# Altium schematic symbol library my_lib.SchLib: 341 symbols (part 2 of 2)
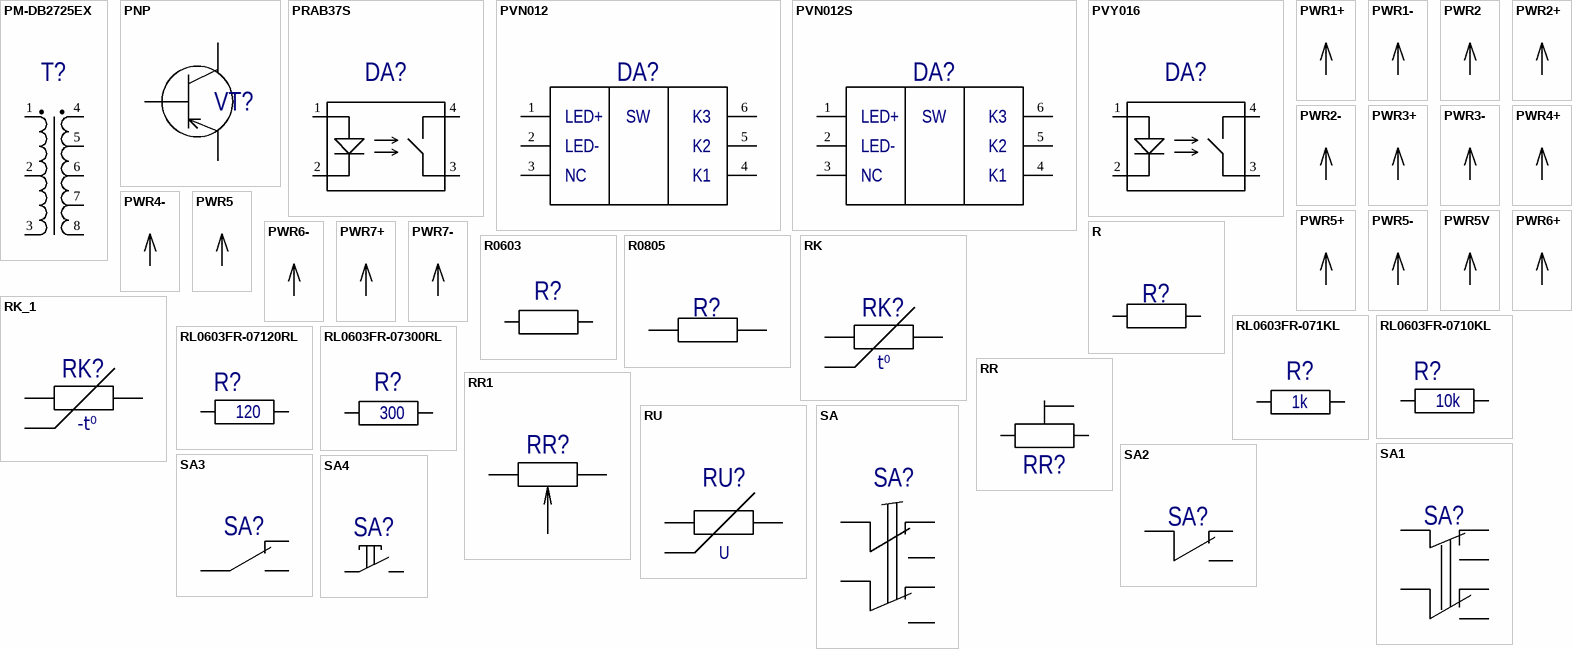
[diagram p26: symbols PM-DB2725EX to SA4]

## PWR6+
designator PWR?  (value not drawn)
Group: Group; Type: Type; TU: TU
pins: 0 PWR6+ (power)

## PWR6-
designator PWR?  (value not drawn)
Group: Group; Type: Type; TU: TU
pins: 0 PWR6- (power)

## PWR7+
designator PWR?  (value not drawn)
Group: Group; Type: Type; TU: TU
pins: 0 PWR7+ (power)

## PWR7-
designator PWR?  (value not drawn)
Group: Group; Type: Type; TU: TU
pins: 0 PWR7- (power)

## R
designator R?  (value not drawn)
Group: Резисторы; Type: Type; TU: TU; Power: Power; Precision: Precision; Value: Value
pins: 1, 2

## R0603
designator R?
Резистор 0603; Part Number: R0603; Group: Резисторы; Type: Type; TU: TU
pins: 1, 2

## R0805
designator R?  (value not drawn)
Group: Резисторы; Type: Type; TU: TU; Power: Power; Precision: Precision; Value: *
footprint 0805
pins: 1, 2

## RK
designator RK?  (value not drawn)
Терморезистор с положительным ТКЕ; Group: Терморезисторы; Type: Type; TU: TU; Price: Price; Value: Value
pins: 1, 2
text: t⁰

## RK_1
designator RK?
Терморезистор с отрицательным ТКЕ; Group: Терморезисторы; Type: Type; TU: TU; Price: Price; Value: Value
pins: 1, 2
text: -t⁰

## RL0603FR-071KL
designator R?  value 1k
Резистор Yageo 0603 1% 1к; Part Number: RL0603FR-071KL; Group: Резисторы; Power: 0,1; Type: Type; TU: TU; Precision: ±1%
pins: 1, 2

## RL0603FR-0710KL
designator R?  value 10k
Резистор Yageo 0603 1% 10к; Part Number: RL0603FR-0710KL; Group: Резисторы; Power: 0,1; Type: Type; TU: TU; Precision: ±1%
pins: 1, 2

## RL0603FR-07120RL
designator R?  value 120
Резистор Yageo 0603 1% 120; Part Number: RL0603FR-07120RL; Group: Резисторы; Power: 0,1; Type: Type; TU: TU; Precision: ±1%
pins: 1, 2

## RL0603FR-07300RL
designator R?  value 300
Резистор Yageo 0603 1% 300; Part Number: RL0603FR-07300RL; Group: Резисторы; Power: 0,1; Type: Type; TU: TU; Precision: ±1%
pins: 1, 2

## RR
designator RR?  (value not drawn)
Group: Резисторы переменные; Precision: Precicion; Type: Type; TU: TU; Power: Power; Value: Value
pins: 0, 1, 2

## RR1
designator RR?  (value not drawn)
Group: Резисторы переменные; Precision: Precicion; Type: Type; TU: TU; Power: Power; Value: Value
pins: 1, 2, 3

## RU
designator RU?  (value not drawn)
Group: Group; Type: Type; TU: TU
pins: 1, 2
text: U

## SA
designator SA?  (value not drawn)
tu_com: ОЮ0.360.028 ТУ; Group: Group; Type: Type; TU: TU
pins: 1, 2, 3, 4, 5, 6

## SA1
designator SA?  (value not drawn)
Group: Group; Type: Type; TU: TU
pins: 1, 2, 3, 4, 5, 6

## SA2
designator SA?  (value not drawn)
Group: Group; Type: Type; TU: TU
pins: 0, 1, 2

## SA3
designator SA?  (value not drawn)
Group: Group; Type: Type; TU: TU
pins: 0, 1, 2

## SA4
designator SA?, comment Кнопка  (value not drawn)
Group: Кнопки; Type: Type; TU: TU
pins: 0, 2

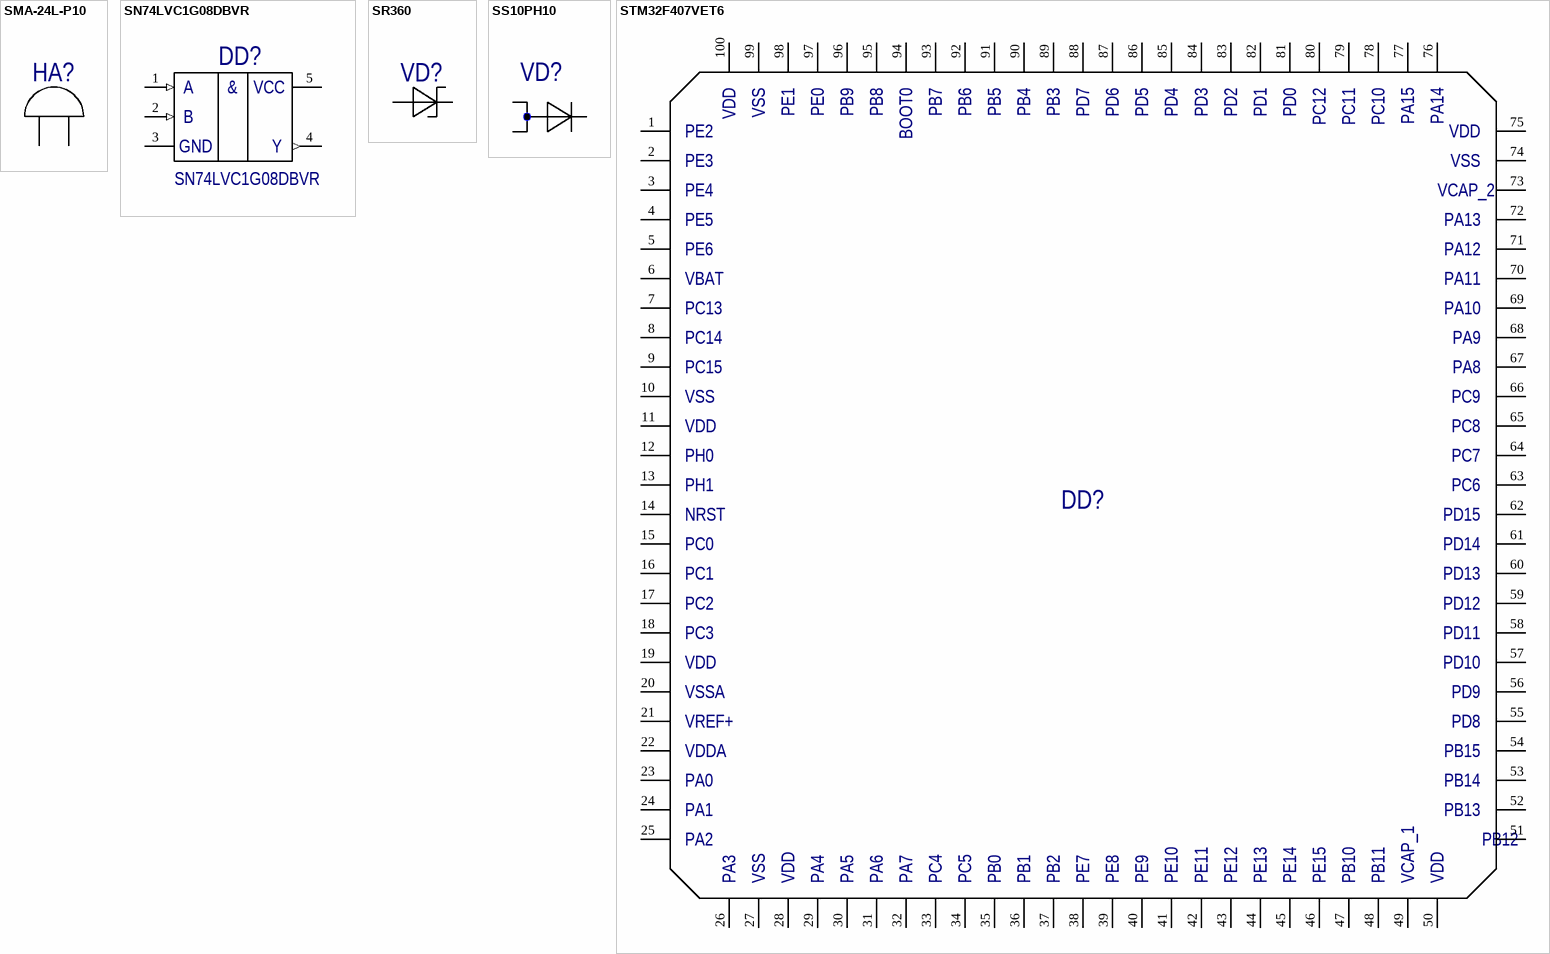
[diagram p21: symbols SMA-24L-P10 to STM32F407VET6]

## SMA-24L-P10
designator HA?  (value not drawn)
Group: Group; Type: Type; TU: TU
footprint SMA24-10
pins: 1, 2

## SN74LVC1G08DBVR
designator DD?  Part Number: SN74LVC1G08DBVR
Единичный элемент И, SOT23; Manufacturer: TI; Group: Микросхемы; Type: Type; TU: TU
pins: 1 IN1 (in), 2 IN2 (in), 3 IN1 (power), 4 OUT (out), 5 IN2 (power), 7 GND (power) hidden, 14 VCC (power) hidden
text: A; &; B; Y

## SR360
designator VD?  (value not drawn)
Group: Диоды; Type: Type; TU: TU
footprint SR360
pins: 1 0, 2 1

## SS10PH10
designator VD?  (value not drawn)
High Current Density Surface-Mount / High Voltage Schottky Rectifiers; Group: Диоды; Type: Type; TU: TU; Part Number: SS10PH10
footprint TO-277A
pins: 1 A1, 2 A2, 3 C

## STM32F407VET6
designator DD?  (value not drawn)
LQFP-100; Manufacturer: STM; Group: Микросхемы; Type: Type; TU: TU; FullName: STM32F407VET6; Part Number: STM32F407VET6
pins: 1, 2, 3, 4, 5, 6, 7, 8, 9, 10, 11, 12, 13, 14, 15, 16, 17, 18, 19, 20, 21, 22, 23, 24, 25, 26, 27, 28, 29, 30, 31, 32, 33, 34, 35, 36, 37, 38, 39, 40, 41, 42, 43, 44, 45, 46, 47, 48, 49, 50, 51, 52, 53, 54, 55, 56, 57, 58, 59, 60, 61, 62, 63, 64, 65, 66, 67, 68, 69, 70, 71, 72, 73, 74, 75, 76, 77, 78, 79, 80, 81, 82, 83, 84, 85, 86, 87, 88, 89, 90, 91, 92, 93, 94, 95, 96, 97, 98, 99, 100
text: VDD; VSS; PE1; PE0; PB9; PB8; BOOT0; PB7; PB6; PB5; PB4; PB3; PD7; PD6; PD5; PD4; PD3; PD2; PD1; PD0; PC12; PC11; PC10; PA15; PA14; PE2; PE3; PE4; VCAP_2; PE5; PA13; PE6; PA12; VBAT; PA11; PC13; PA10; PC14; PA9; PC15; PA8; PC9; PC8; PH0; PC7; PH1; PC6; NRST; PD15; PC0; PD14; PC1; PD13; PC2; PD12; PC3; PD11; PD10; VSSA; PD9; VREF+; PD8; VDDA; PB15; PA0; PB14; PA1; PB13; PA2; PB12; PA3; PA4; PA5; PA6; PA7; PC4; PC5; PB0; PB1; PB2; PE7; PE8; PE9; PE10; PE11; PE12; PE13; PE14; PE15; PB10; PB11; VCAP_1

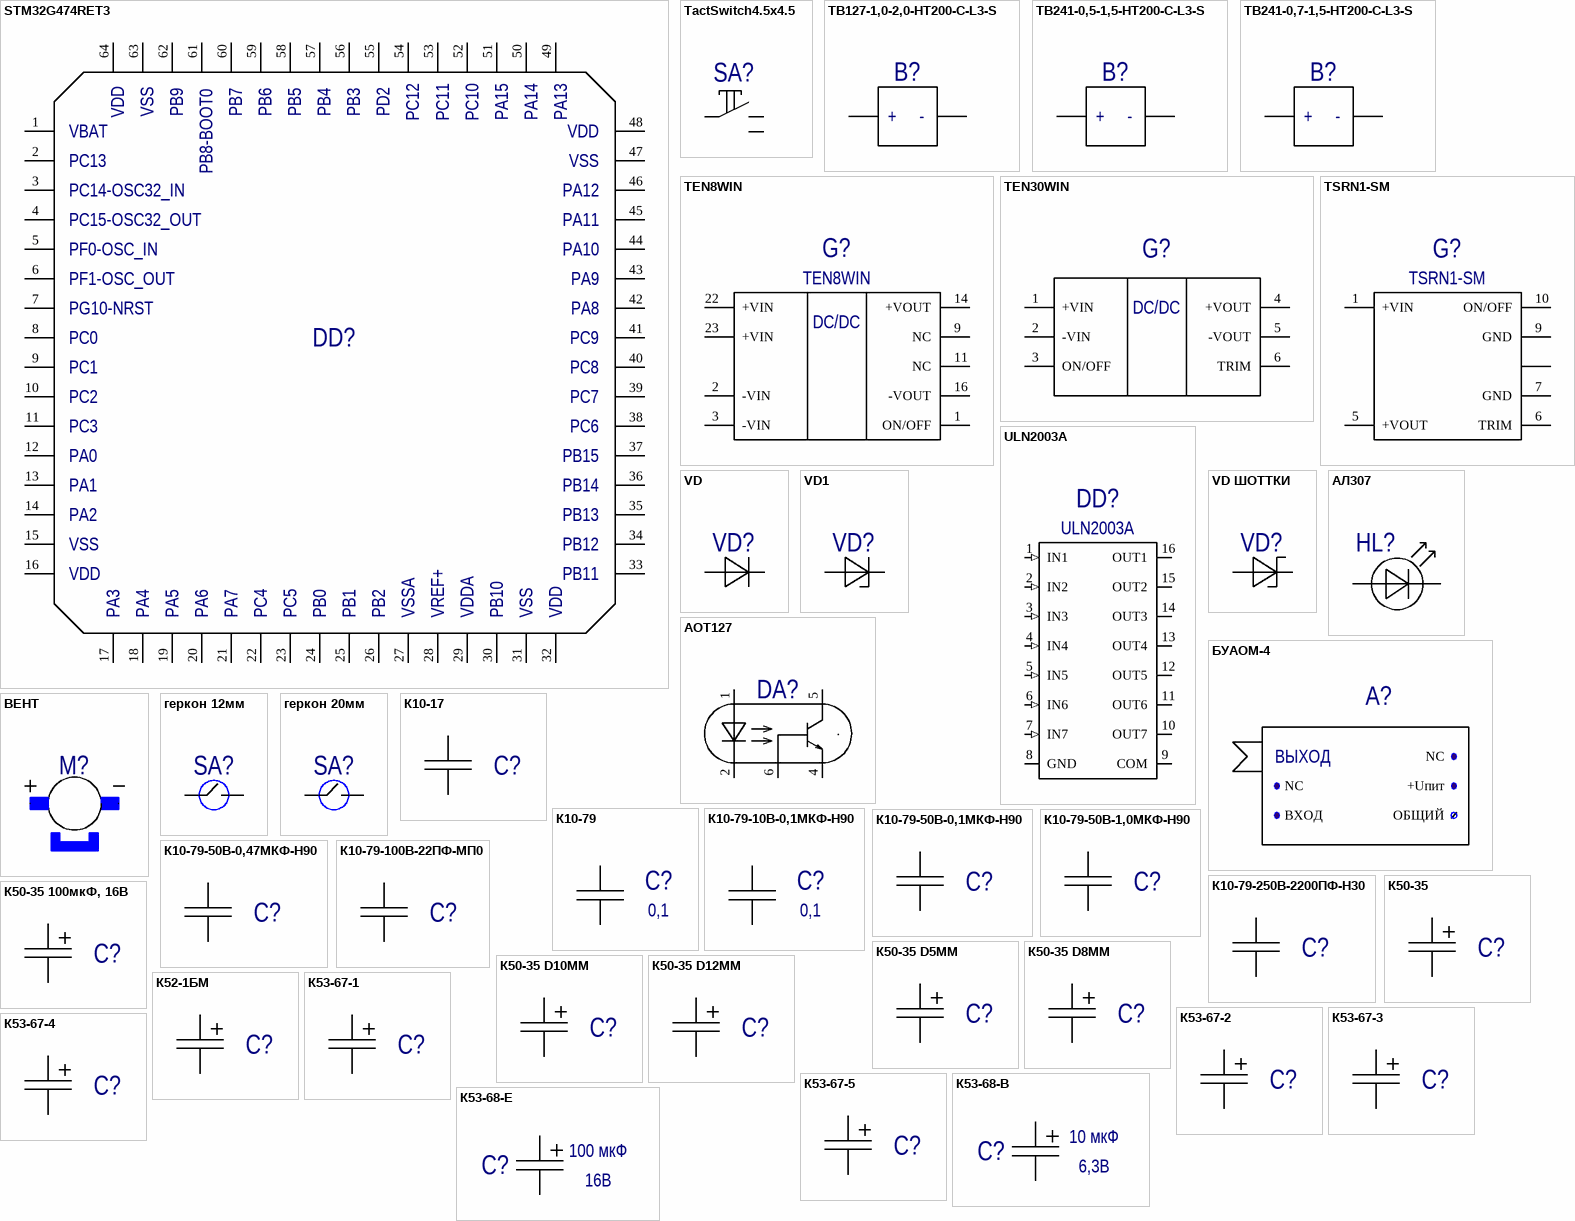
[diagram p22: symbols STM32G474RET3 to К53-68-E]

## STM32G474RET3
designator DD?  (value not drawn)
LQFP64; Manufacturer: STM; Group: Микросхемы; Type: Type; TU: TU; FullName: STM32G474RET3; Part Number: STM32G474RET3
footprint 4229.132-3
pins: 1, 2, 3, 4, 5, 6, 7, 8, 9, 10, 11, 12, 13, 14, 15, 16, 17, 18, 19, 20, 21, 22, 23, 24, 25, 26, 27, 28, 29, 30, 31, 32, 33, 34, 35, 36, 37, 38, 39, 40, 41, 42, 43, 44, 45, 46, 47, 48, 49, 50, 51, 52, 53, 54, 55, 56, 57, 58, 59, 60, 61, 62, 63, 64
text: VDD; VSS; PB9; PB7; PB6; PB5; PB4; PB3; PD2; PC12; PC11; PC10; PA15; PA14; PA13; VBAT; PB8-BOOT0; PC13; PC14-OSC32_IN; PA12; PC15-OSC32_OUT; PA11; PF0-OSC_IN; PA10; PF1-OSC_OUT; PA9; PG10-NRST; PA8; PC0; PC9; PC1; PC8; PC2; PC7; PC3; PC6; PA0; PB15; PA1; PB14; PA2; PB13; PB12; PB11; PA3; PA4; PA5; PA6; PA7; PC4; PC5; PB0; PB1; PB2; VSSA; VREF+; VDDA; PB10

## TactSwitch4.5x4.5
designator SA?, comment Кнопка  (value not drawn)
Кнопка трехконтактная 4,5х4,5 боковая; Part Number: tact switch 4.5x4.5mm; Group: Кнопки; Type: Type; TU: TU
footprint Кнопка 4,3х4,3 боковая
pins: 1, 2, 3

## TB127-1,0-2,0-HT200-C-L3-S
designator B?  (value not drawn)
Термоэлектрический модуль; Part Number: TB127-1,0-2,0-HT200-C-L3-S ТУ6349-001-79789858-2007; TypeComp: Модули термоэлектрические; NameComp: TB127-1,0-2,0-HT200-C-L3-S
pins: 1, 1
text: +; -

## TB241-0,5-1,5-HT200-C-L3-S
designator B?  (value not drawn)
Термоэлектрический модуль; Part Number: TB241-0,5-1,5-HT200-C-L3-S ТУ6349-001-79789858-2007; TypeComp: Модули термоэлектрические; NameComp: TB241-0,5-1,5-HT200-C-L3-S
pins: 1, 1
text: +; -

## TB241-0,7-1,5-HT200-C-L3-S
designator B?  (value not drawn)
Термоэлектрический модуль; Part Number: TB241-0,7-1,5-HT200-C-L3-S ТУ6349-001-79789858-2007; TypeComp: Модули термоэлектрические; NameComp: TB241-0,7-1,5-HT200-C-L3-S
pins: 1, 1
text: +; -

## TEN8WIN
designator G?, comment Type: TEN8WIN  (hidden comment: DC/DC преобразователь)
Manufacturer: Traco Power; Group: Модули питания; Price: 2000; FullName: TEN8WIN
pins: 1 ON/OFF, 2 -VIN, 3 -VIN, 9 NC, 11 NC, 14 +VOUT, 16 -VOUT, 22 +VIN, 23 +VIN
text: DC/DC

## TEN30WIN
designator G?, comment DC/DC преобразователь  (value not drawn)
Manufacturer: Traco Power; Group: Модули питания; Price: 2000; Type: TEN30WIN
pins: 1 +VIN, 2 -VIN, 3 ON/OFF, 4 +VOUT, 5 -VOUT, 6 TRIM
text: DC/DC

## TSRN1-SM
designator G?
Manufacturer: Traco Power; Group: Источники питания; TU: TU; FullName: TSRN1-SM; Type: TSRN1-SM
pins: 1 +VIN, 5 +VOUT, 6 TRIM, 7 GND, 8, 9 GND, 10 ON/OFF

## ULN2003A
designator DD?
Group: Микросхемы; FullName: ULN2003A; Part Number: ULN2003A; Type: ULN2003A
footprint SOIC-RW16
pins: 1 IN1 (in), 2 IN2 (in), 3 IN3 (in), 4 IN4 (in), 5 IN5 (in), 6 IN6 (in), 7 IN7 (in), 8 GND, 9 COM, 10 OUT7 (oc), 11 OUT6 (oc), 12 OUT5 (oc), 13 OUT4 (oc), 14 OUT3 (oc), 15 OUT2 (oc), 16 OUT1 (oc)

## VD
designator VD?  (value not drawn)
Group: Диоды; Type: Type; TU: TU
pins: 1 0, 2 1

## VD1
designator VD?  (value not drawn)
Group: Диоды; Type: Type; TU: TU
pins: 1 0, 2 1

## VD ШОТТКИ
designator VD?  (value not drawn)
Group: Диоды; Type: Type; TU: TU
pins: 1 0, 2 1

## АЛ307
designator HL?  (value not drawn)
Group: Индикаторы единичные; Type: Type; TU: TU
footprint АЛ307
pins: 1, 2

## АОТ127
designator DA?  (value not drawn)
Group: Микросхемы; Type: Type; TU: TU
footprint 2101.6-1
pins: 1 A, 2 K, 3, 4 E, 5 C, 6 B

## БУАОМ-4
designator A?  (value not drawn)
TU: ЯНТИ.431167.004 ТУ; Group: Group; Type: БУАОМ-4
pins: ?1 NC, ?2 ВХОД, ?3 ОБЩИЙ, ?4 +Uпит, ?5 NC
text: ВЫХОД

## ВЕНТ
designator M?  (value not drawn)
Group: Group; Type: Type; TU: TU
pins: 0, 1

## геркон 12мм
designator SA?  (value not drawn)
Геркон пластик Китай 12мм; Group: Изделия коммутационные; Type: Type; TU: TU; Part Number: Геркон 12 мм
footprint Геркон 12 мм
pins: 1, 2

## геркон 20мм
designator SA?  (value not drawn)
Геркон стеклянный 20мм; Group: Изделия коммутационные; Type: Type; TU: TU; Part Number: Геркон 20 мм
footprint Геркон 20 мм
pins: 1, 2

## К10-17
designator C?  (value not drawn)
Group: Конденсаторы; Type: Type; TU: TU; Value: Value; Volt: Volt; TKE: TKE; Precision: Precision
footprint К10-17
pins: 1, 2

## К10-79
designator C?  value 0,1  (hidden comment: К10-79)
Group: Конденсаторы; TU: АЖЯР.673511.004ТУ; Volt: 10В; TKE: -Н90; FullName: К10-79-10В-0,1-Н90 АЖЯР.673511.004ТУ; Type: К10-79; Precision: Precision; Price: 1
pins: 1, 2

## К10-79-10В-0,1МКФ-Н90
designator C?  value 0,1  (hidden comment: К10-79-10В-0,1МКФ-Н90)
Group: Конденсаторы; Type: К10-79; TU: АЖЯР.673511.004ТУ; Volt: 10В; TKE: -Н90; Precision: Precision; Price: 1
footprint К10-79-1,6х0,8 (Chip Capacitor, 2-Leads, Body 1,60x0,80mm, IPC Low Density)
pins: 1, 2

## К10-79-50В-0,1МКФ-Н90
designator C?  (value not drawn)
Group: Конденсаторы; Type: Type; TU: TU; Value: Value; Volt: Volt; TKE: TKE; Precision: Precision
footprint К10-79-3,2Х1,6
pins: 1, 2

## К10-79-50В-0,47МКФ-Н90
designator C?  (value not drawn)
Group: Конденсаторы; Type: Type; TU: TU; Value: Value; Volt: Volt; TKE: TKE; Precision: Precision
footprint К10-79-4.5X3.2
pins: 1, 2

## К10-79-50В-1,0МКФ-Н90
designator C?  (value not drawn)
Group: Конденсаторы; Type: Type; TU: TU; Value: Value; Volt: Volt; TKE: TKE; Precision: Precision
footprint К10-79-5.7X5.0
pins: 1, 2

## К10-79-100В-22ПФ-МП0
designator C?  (value not drawn)
Group: Конденсаторы; Type: Type; TU: TU; Value: Value; Volt: Volt; TKE: TKE; Precision: Precision
footprint К10-79-1.6X0.8
pins: 1, 2

## К10-79-250В-2200ПФ-Н30
designator C?  (value not drawn)
Group: Конденсаторы; Type: Type; TU: TU; Value: Value; Volt: Volt; TKE: TKE; Precision: Precision
footprint К10-79-3,2Х1,6
pins: 1, 2

## К50-35
designator C?  (value not drawn)
Group: Конденсаторы; Type: Type; TU: TU; Value: Value; Volt: Volt; TKE: TKE; Precision: Precision
footprint К50-35
pins: 1, 2

## К50-35 100мкФ, 16В
designator C?
К50-35, 100 мкФ, 16 В, 105°C, 20%, 6,3x11мм, Low imp, JRC1C101M02500630110000B, Конденсатор электролитический алюминиевый; Part Number: Конденсатор К50-35, 100 мкФ, 16 В, 105°C, 20%, 6,3x11мм; Group: Конденсаторы; Value: 100 мкФ; Volt: 16; Type: Type; TU: TU; TKE: TKE; Precision: Precision
pins: 1, 2

## К50-35 D5MM
designator C?  (value not drawn)
Group: Конденсаторы; Type: Type; TU: TU; Value: Value; Volt: Volt; TKE: TKE; Precision: Precision
footprint К50-35 D5MM
pins: 1, 2

## К50-35 D8MM
designator C?  (value not drawn)
Group: Конденсаторы; Type: Type; TU: TU; Value: Value; Volt: Volt; TKE: TKE; Precision: Precision
footprint К50-35 D8MM
pins: 1, 2

## К50-35 D10MM
designator C?  (value not drawn)
Group: Конденсаторы; Type: Type; TU: TU; Value: Value; Volt: Volt; TKE: TKE; Precision: Precision
footprint К50-35 D10MM
pins: 1, 2

## К50-35 D12MM
designator C?  (value not drawn)
Group: Конденсаторы; Type: Type; TU: TU; Value: Value; Volt: Volt; TKE: TKE; Precision: Precision
footprint К50-35 D12MM
pins: 1, 2

## К52-1БМ
designator C?  (value not drawn)
Group: Конденсаторы; Type: Type; TU: TU; Value: Value; Volt: Volt; TKE: TKE; Precision: Precision
pins: 1, 2

## К53-67-1
designator C?  (value not drawn)
Group: Конденсаторы; Type: Type; TU: TU; Value: Value; Volt: Volt; TKE: TKE; Precision: Precision
pins: 1, 2

## К53-67-2
designator C?  (value not drawn)
Group: Конденсаторы; Type: Type; TU: TU; Value: Value; Volt: Volt; TKE: TKE; Precision: Precision
pins: 1, 2

## К53-67-3
designator C?  (value not drawn)
Group: Конденсаторы; Type: Type; TU: TU; Value: Value; Volt: Volt; TKE: TKE; Precision: Precision
pins: 1, 2

## К53-67-4
designator C?  (value not drawn)
Group: Конденсаторы; Type: Type; TU: TU; Value: Value; Volt: Volt; TKE: TKE; Precision: Precision
pins: 1, 2

## К53-67-5
designator C?  (value not drawn)
Group: Конденсаторы; Type: Type; TU: TU; Value: Value; Volt: Volt; TKE: TKE; Precision: Precision
pins: 1, 2

## К53-68-B
designator C?  value 10 мкФ  Volt: 6,3В  (hidden comment: К53-68-B)
Group: Конденсаторы; Type: К53-68; TU: АЖЯР.673546.007 ТУ; Precision: ±20%; FullName: К53-68 "В"-6,3В-10мкФ±20%; TKE: TKE; Price: 1
footprint К53-68-B (Molded Capacitor, 2-Leads, Body 3,50x2,80mm, IPC Low Density)
pins: 1, 2

## К53-68-E
designator C?  value 100 мкФ  Volt: 16В  (hidden comment: К53-68-E)
Group: Конденсаторы; Type: К53-68; TU: АЖЯР.673546.007 ТУ; Precision: ±20%; FullName: К53-68 "E"-16В-100мкФ±20%; TKE: TKE; Price: 1
footprint K53-68-E (Molded Capacitor, 2-Leads, Body 7,30x4,30mm, IPC Medium Density)
pins: 1, 2

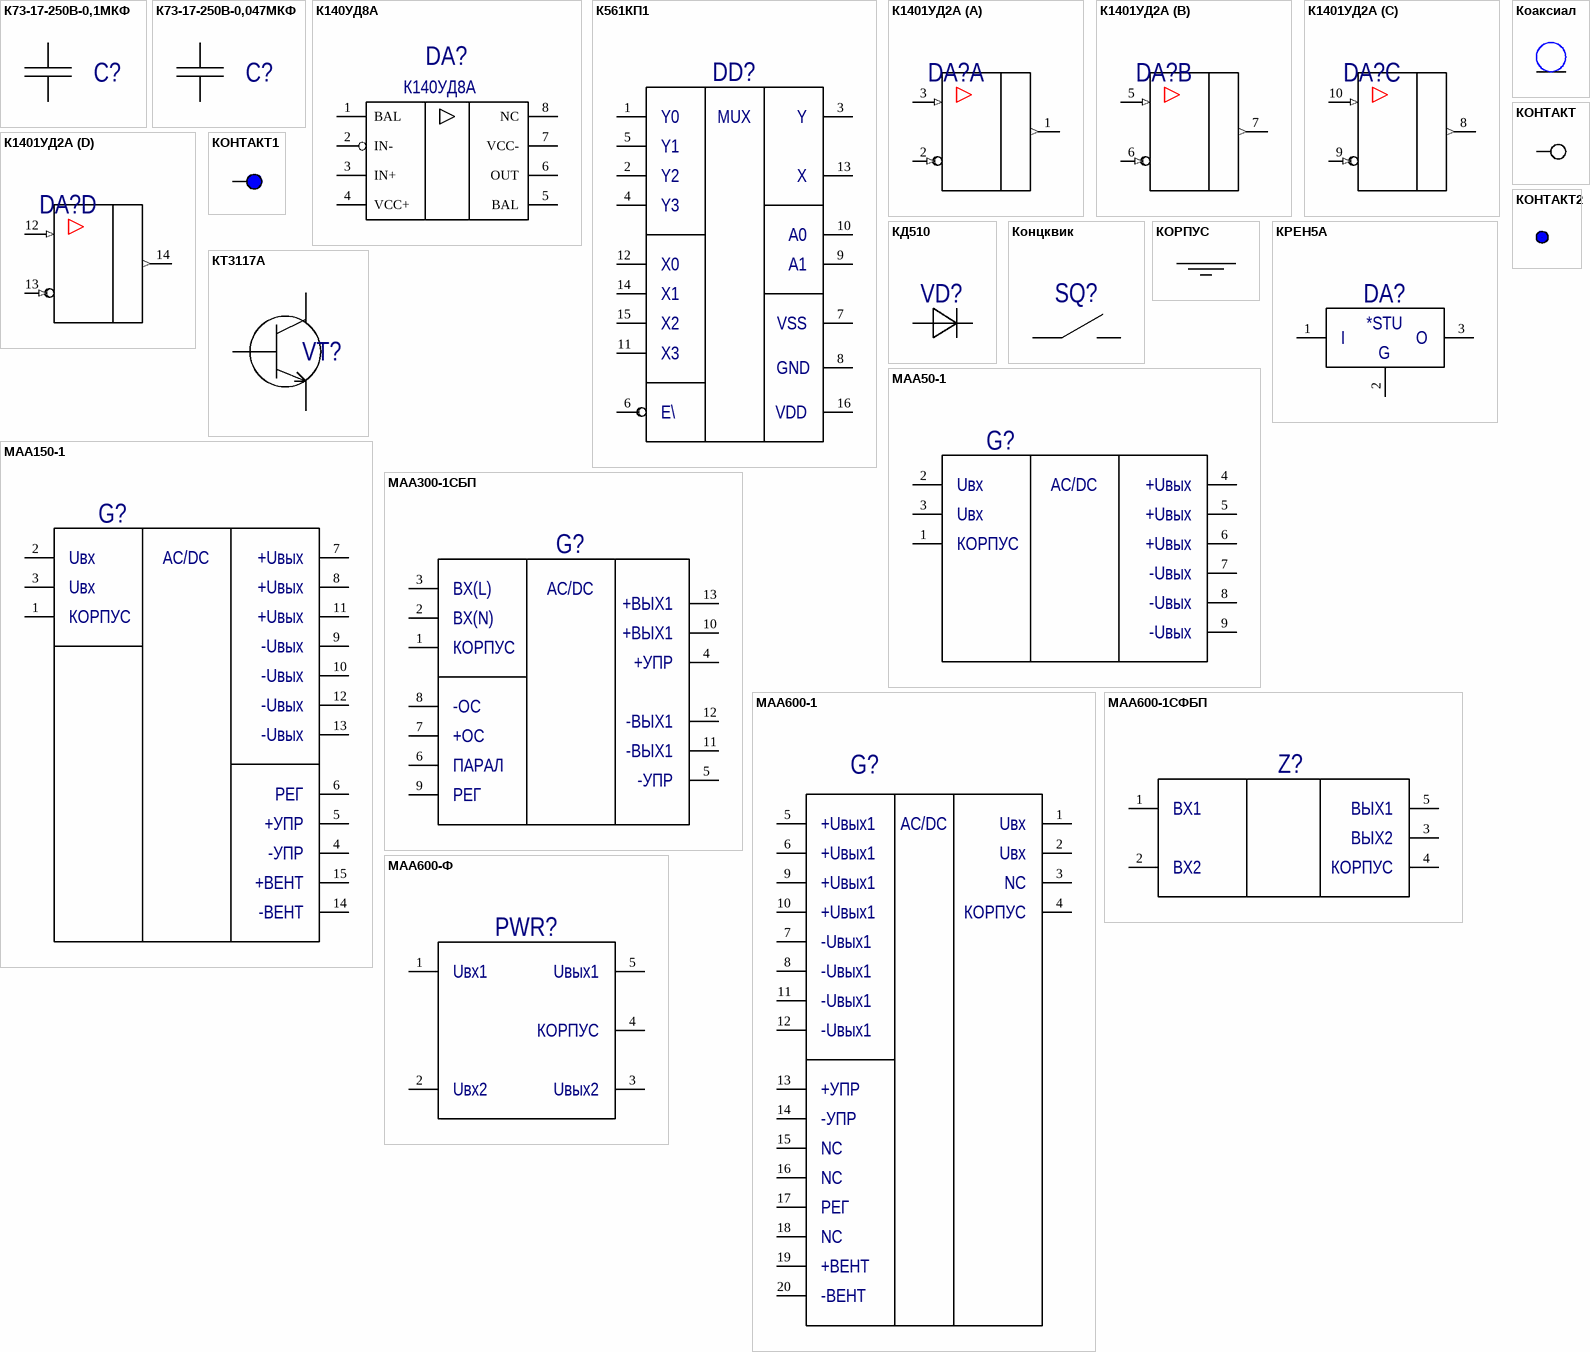
[diagram p23: symbols К73-17-250В-0,1МКФ to МАА600-Ф]

## К73-17-250В-0,1МКФ
designator C?  (value not drawn)
Group: Конденсаторы; Type: Type; TU: TU; Value: Value; Volt: Volt; TKE: TKE; Precision: Precision
pins: 1, 2

## К73-17-250В-0,047МКФ
designator C?  (value not drawn)
Group: Конденсаторы; Type: Type; TU: TU; Value: Value; Volt: Volt; TKE: TKE; Precision: Precision
pins: 1, 2

## К140УД8А
designator DA?, comment Type: К140УД8А  (hidden comment: Операционный усилитель)
Group: Микросхемы; FullName: К140УД8А
pins: 1 BAL, 2 IN-, 3 IN+, 4 VCC+, 5 BAL, 6 OUT, 7 VCC-, 8 NC

## К561КП1
designator DD?  (value not drawn)
Group: Микросхемы; Type: Type; TU: TU
footprint 238.16-1
pins: 1, 2, 3, 4, 5, 6, 7, 8, 9, 10, 11, 12, 13, 14, 15, 16
text: Y0; MUX; Y; Y1; Y2; X; Y3; A0; X0; A1; X1; X2; VSS; X3; GND; E\; VDD

## К1401УД2А
designator DA?  (value not drawn)
Group: Микросхемы; Type: Type; TU: TU
footprint 201.14-10
pins on every part: 4 -15V (power) hidden, 11 +15V (power) hidden
part A pins: 1 OUT (out), 2 ~{IN} (in), 3 IN (in)
part B pins: 5 IN (in), 6 ~{IN} (in), 7 OUT (out)
part C pins: 8 OUT (out), 9 ~{IN} (in), 10 IN (in)
part D pins: 12 IN (in), 13 ~{IN} (in), 14 OUT (out)

## КД510
designator VD?  (value not drawn)
Group: Диоды; Type: Type; TU: TU
footprint КД510
pins: 1 0, 2 1

## Коаксиал
designator ?  (value not drawn)
Коаксиальный кабель; Group: Кабели соединительные; TU: TU; Type: Type
pins: 2

## КОНТАКТ
designator U?  (value not drawn)
Group: Group; Type: Type; TU: TU
footprint КОНТАКТ
pins: 1 0

## КОНТАКТ1
designator U?  (value not drawn)
Group: Group; Type: Type; TU: TU
footprint КОНТАКТ
pins: 1 0

## КОНТАКТ2
designator U?  (value not drawn)
Group: Group; Type: Type; TU: TU
pins: 0

## Концквик
designator SQ?  (value not drawn)
Концевик; Part Number: Концевик; NameComp: *
pins: 0, 2

## КОРПУС
designator PWR?  (value not drawn)
Group: Group; Type: Type; TU: TU
pins: 0 CHASSIS (power)

## КРЕН5А
designator DA?  (value not drawn)
Group: Микросхемы; Type: Type; TU: TU
footprint КРЕН5А
pins: 1, 2, 3
text: *STU; I; O; G

## КТ3117А
designator VT?  (value not drawn)
Group: Транзисторы; Type: Type; TU: TU
pins: 1, 2, 3

## МАА50-1
designator G?  (value not drawn)
Group: Модули питания; Type: Type; TU: TU
pins: 1, 2, 3, 4, 5, 6, 7, 8, 9
text: Uвх; AC/DC; +Uвых; КОРПУС; -Uвых

## МАА150-1
designator G?  (value not drawn)
Group: Модули питания; Type: Type; TU: TU
pins: 1, 2, 3, 4, 5, 6, 7, 8, 9, 10, 11, 12, 13, 14, 15
text: Uвх; AC/DC; +Uвых; КОРПУС; -Uвых; РЕГ; +УПР; -УПР; +ВЕНТ; -ВЕНТ

## МАА300-1СБП
designator G?  (value not drawn)
Group: Модули питания; Type: Type; TU: TU
pins: 1, 2, 3, 4, 5, 6, 7, 8, 9, 10, 11, 12, 13
text: ВХ(L); AC/DC; +ВЫХ1; ВХ(N); КОРПУС; +УПР; -ОС; -ВЫХ1; +ОС; ПАРАЛ; -УПР; РЕГ

## МАА600-1
designator G?  (value not drawn)
Group: Модули питания; Type: Type; TU: TU
pins: 1, 2, 3, 4, 5, 6, 7, 8, 9, 10, 11, 12, 13, 14, 15, 16, 17, 18, 19, 20
text: +Uвых1; AC/DC; Uвх; NC; КОРПУС; -Uвых1; +УПР; -УПР; РЕГ; +ВЕНТ; -ВЕНТ

## МАА600-1СФБП
designator Z?  (value not drawn)
Group: Group; Type: Type; TU: TU
pins: 1, 2, 3, 4, 5
text: ВХ1; ВЫХ1; ВЫХ2; ВХ2; КОРПУС

## МАА600-Ф
designator PWR?  (value not drawn)
Group: Group; Type: Type; TU: TU
pins: 1 МАА600-Ф (power), 2 МАА600-Ф (power), 3 МАА600-Ф (power), 4 МАА600-Ф (power), 5 МАА600-Ф (power)
text: Uвх1; Uвых1; КОРПУС; Uвх2; Uвых2

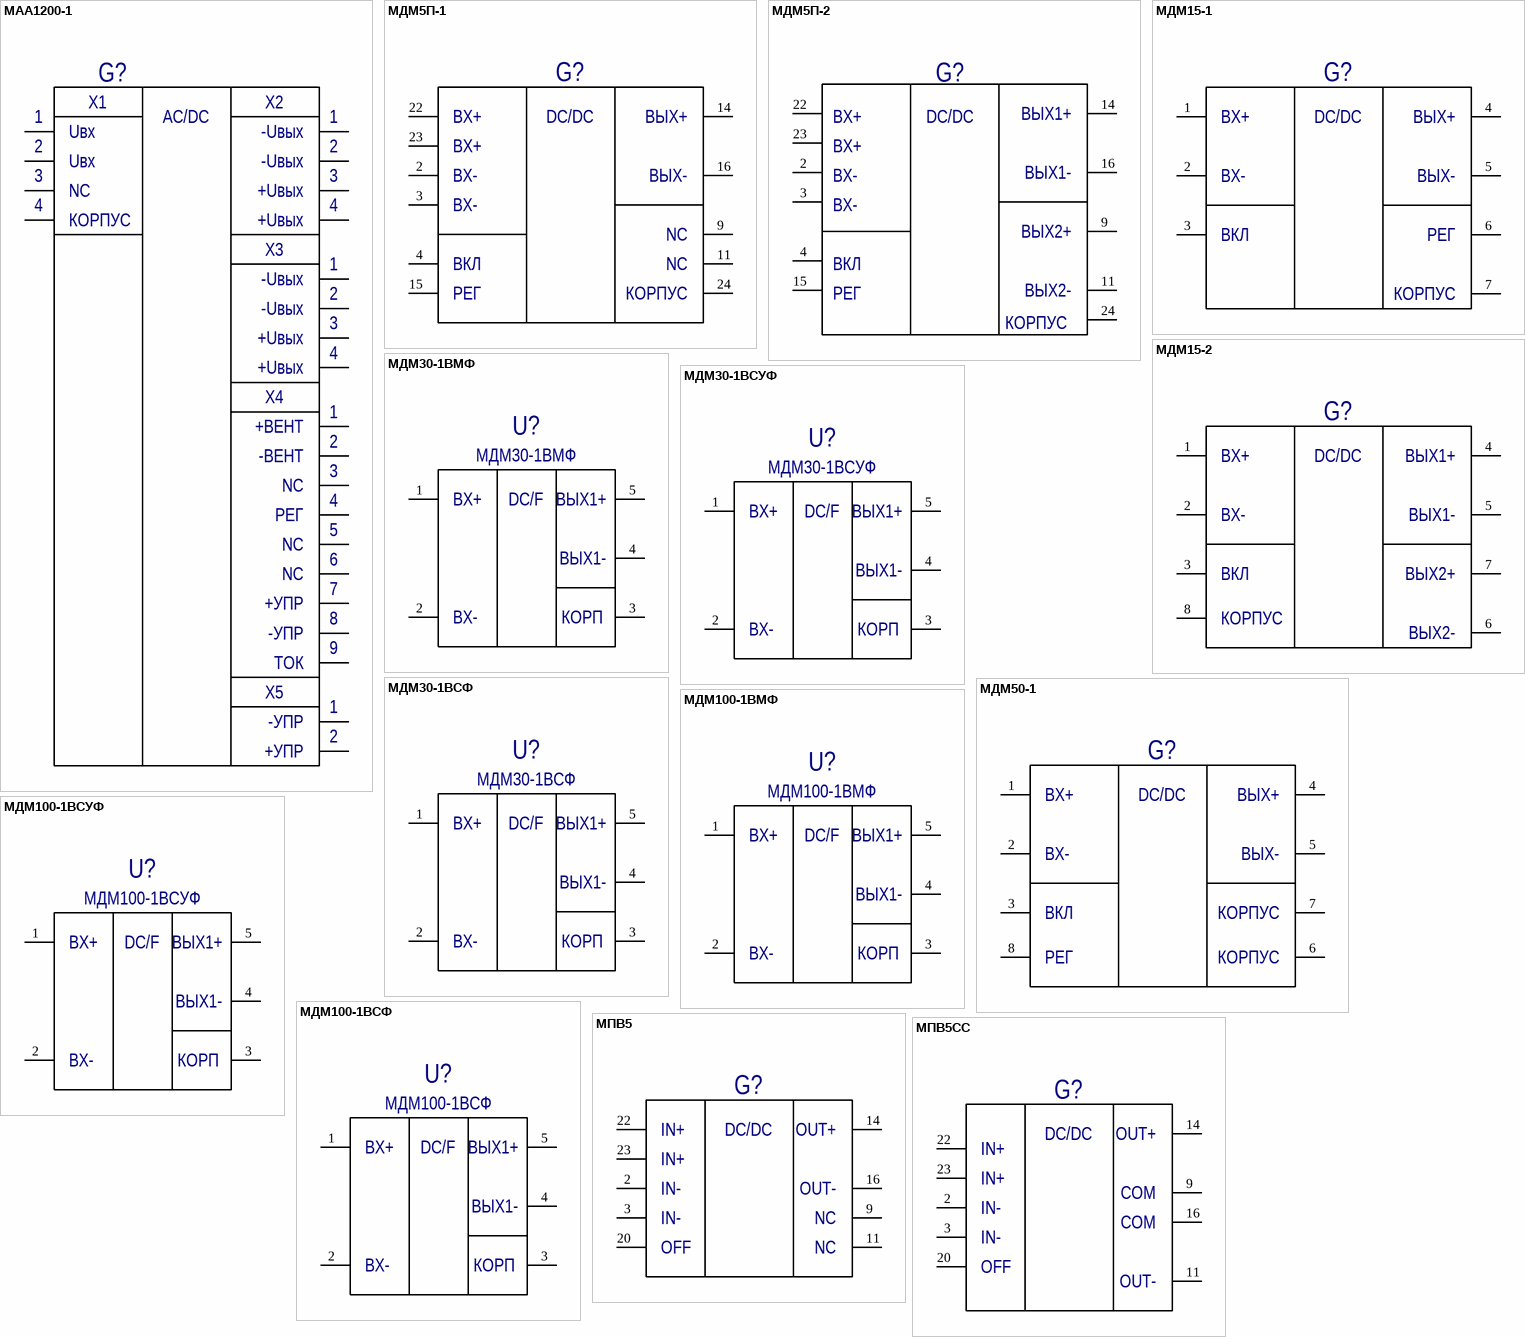
[diagram p24: symbols МАА1200-1 to МПВ5СС]

## МАА1200-1
designator G?  (value not drawn)
Group: Модули питания; Type: Type; TU: TU
pins: 1, 2, 3, 4, 5, 6, 7, 8, 9, 10, 11, 12, 13, 14, 15, 16, 17, 18, 19, 20, 21, 22, 23
text: X1; X2; AC/DC; Uвх; -Uвых; NC; +Uвых; КОРПУС; X3; X4; +ВЕНТ; -ВЕНТ; РЕГ; +УПР; -УПР; ТОК; X5

## МДМ5П-1
designator G?  (value not drawn)
Group: Модули питания; Type: Type; TU: TU
footprint МДМ5-П1_МДМ5П-1(Primary)
pins: 2, 3, 4, 9, 11, 14, 15, 16, 22, 23, 24
text: ВХ+; DC/DC; ВЫХ+; ВХ-; ВЫХ-; NC; ВКЛ; РЕГ; КОРПУС

## МДМ5П-2
designator G?  (value not drawn)
Group: Модули питания; Type: Type; TU: TU
pins: 2, 3, 4, 9, 11, 14, 15, 16, 22, 23, 24
text: ВХ+; DC/DC; ВЫХ1+; ВХ-; ВЫХ1-; ВЫХ2+; ВКЛ; РЕГ; ВЫХ2-; КОРПУС

## МДМ15-1
designator G?  (value not drawn)
Group: Модули питания; Type: Type; TU: TU
pins: 1, 2, 3, 4, 5, 6, 7
text: ВХ+; DC/DC; ВЫХ+; ВХ-; ВЫХ-; ВКЛ; РЕГ; КОРПУС

## МДМ15-2
designator G?  (value not drawn)
Group: Модули питания; Type: Type; TU: TU
pins: 1, 2, 3, 4, 5, 6, 7, 8
text: ВХ+; DC/DC; ВЫХ1+; ВХ-; ВЫХ1-; ВКЛ; ВЫХ2+; КОРПУС; ВЫХ2-

## МДМ30-1ВМФ
designator U?
Part Number: МДМ30-1ВМФ БКЯЮ.436630.030ТУ; TypeComp: Модуль электропитания; NameComp: МДМ30-1ВМФ
pins: 1, 2, 3, 4, 5
text: ВХ+; DC/F; ВЫХ1+; ВЫХ1-; ВХ-; КОРП

## МДМ30-1ВСУФ
designator U?
Part Number: МДМ30-1ВСУФ БКЯЮ.436630.030ТУ; TypeComp: Модуль электропитания; NameComp: МДМ30-1ВСУФ
pins: 1, 2, 3, 4, 5
text: ВХ+; DC/F; ВЫХ1+; ВЫХ1-; ВХ-; КОРП

## МДМ30-1ВСФ
designator U?
Part Number: МДМ30-1ВСФ БКЯЮ.436630.030ТУ; TypeComp: Модуль электропитания; NameComp: МДМ30-1ВСФ
pins: 1, 2, 3, 4, 5
text: ВХ+; DC/F; ВЫХ1+; ВЫХ1-; ВХ-; КОРП

## МДМ50-1
designator G?  (value not drawn)
Group: Модули питания; Type: Type; TU: TU
pins: 1, 2, 3, 4, 5, 6, 7, 8
text: ВХ+; DC/DC; ВЫХ+; ВХ-; ВЫХ-; ВКЛ; КОРПУС; РЕГ

## МДМ100-1ВМФ
designator U?
Part Number: МДМ100-1ВМФ БКЯЮ.436630.030ТУ; TypeComp: Модуль электропитания; NameComp: МДМ100-1ВМФ
pins: 1, 2, 3, 4, 5
text: ВХ+; DC/F; ВЫХ1+; ВЫХ1-; ВХ-; КОРП

## МДМ100-1ВСУФ
designator U?
Part Number: МДМ100-1ВСУФ БКЯЮ.436630.030ТУ; TypeComp: Модуль электропитания; NameComp: МДМ100-1ВСУФ
pins: 1, 2, 3, 4, 5
text: ВХ+; DC/F; ВЫХ1+; ВЫХ1-; ВХ-; КОРП

## МДМ100-1ВСФ
designator U?
Part Number: МДМ100-1ВСФ БКЯЮ.436630.030ТУ; TypeComp: Модуль электропитания; NameComp: МДМ100-1ВСФ
pins: 1, 2, 3, 4, 5
text: ВХ+; DC/F; ВЫХ1+; ВЫХ1-; ВХ-; КОРП

## МПВ5
designator G?  (value not drawn)
Group: Модули питания; Type: Type; TU: TU
footprint МПВ5_МПВ5(Primary)
pins: 2, 3, 9, 11, 14, 16, 20, 22, 23
text: IN+; DC/DC; OUT+; IN-; OUT-; NC; OFF

## МПВ5СС
designator G?  (value not drawn)
Group: Модули питания; Type: Type; TU: TU
footprint МПВ5_МПВ5СС(Primary)
pins: 2, 3, 9, 11, 14, 16, 20, 22, 23
text: DC/DC; OUT+; IN+; COM; IN-; OFF; OUT-

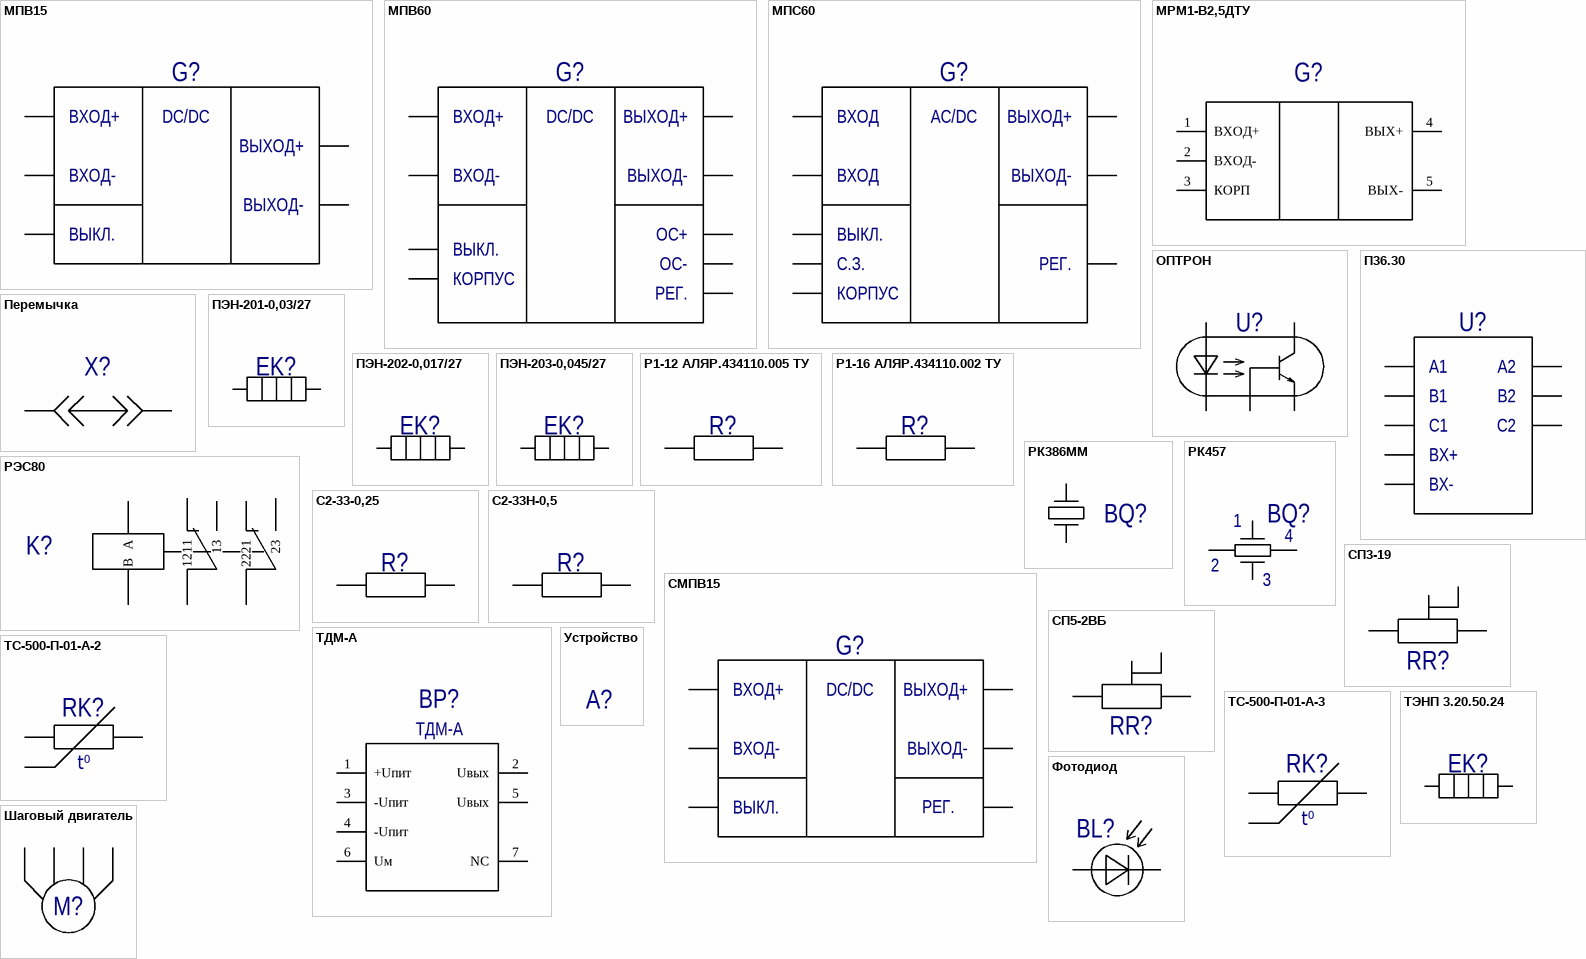
[diagram p25: symbols МПВ15 to Шаговый двигатель]

## МПВ15
designator G?  (value not drawn)
Group: Модули питания; Type: Type; TU: TU
footprint МПВ15
pins: 1, 2, 3, 4, 5
text: ВХОД+; DC/DC; ВЫХОД+; ВХОД-; ВЫХОД-; ВЫКЛ.

## МПВ60
designator G?  (value not drawn)
Group: Модули питания; Type: Type; TU: TU
pins: 0, 1, 2, 3, 4, 5, 6, 7, 8
text: ВХОД+; DC/DC; ВЫХОД+; ВХОД-; ВЫХОД-; ОС+; ВЫКЛ.; ОС-; КОРПУС; РЕГ.

## МПС60
designator G?  (value not drawn)
Group: Модули питания; Type: Type; TU: TU
footprint МПС60_МПС60(Primary)
pins: 0, 1, 2, 3, 4, 5, 6, 7
text: ВХОД; AC/DC; ВЫХОД+; ВЫХОД-; ВЫКЛ.; С.З.; РЕГ.; КОРПУС

## МРМ1-В2,5ДТУ
designator G?, comment Модуль фильтрации  (value not drawn)
Manufacturer: Александер Электрик; Group: Модули питания; TU: БКЮС.468240.003-01 ТУ; Price: 500; Type: МРМ1-В2,5ДТУ
pins: 1 ВХОД+, 2 ВХОД-, 3 КОРП, 4 ВЫХ+, 5 ВЫХ-

## ОПТРОН
designator U?  (value not drawn)
Group: Group; Type: Type; TU: TU
pins: 1 A, 2 K, 3 B, 4 C, 5 E

## П36.30
designator U?  (value not drawn)
Group: Group; Type: Type; TU: TU
pins: 0, 1, 2, 3, 4, 5, 6, 7
text: A1; A2; B1; B2; C1; C2; ВХ+; ВХ-

## Перемычка
designator X?  (value not drawn)
Group: Соединители; Type: Type; TU: TU
pins: 1, 2

## ПЭН-201-0,03/27
designator EK?  (value not drawn)
Нагреватели; Part Number: ПЭН-201-0,03/27 038.431432.201СБ; TypeComp: Нагреватель; NameComp: ПЭН-201-0,03/27
pins: 1, 2

## ПЭН-202-0,017/27
designator EK?  (value not drawn)
Нагреватели; Part Number: ПЭН-202-0,017/27 038.431432.202СБ; TypeComp: Нагреватель; NameComp: ПЭН-202-0,017/27
pins: 1, 2

## ПЭН-203-0,045/27
designator EK?  (value not drawn)
Нагреватели; Part Number: ПЭН-203-0,045/27 038.431432.203СБ; TypeComp: Нагреватель; NameComp: ПЭН-203-0,045/27
pins: 1, 2

## Р1-12 АЛЯР.434110.005 ТУ
designator R?  (value not drawn)
Group: Резисторы; Power: -0,125; Precision: ±5%; TKS: -M; Value: 1кОм; Type: Р1-12; TU: АЛЯР.434110.005 ТУ; Price: 1
footprint Р1-12-0,5 (Chip Resistor, 2-Leads, Body 5,00x2,50mm, IPC Low Density)
footprint Р1-12-0,1 (Chip Resistor, 2-Leads, Body 1,60x0,80mm, IPC Low Density)
footprint Р1-12-0,25 (Chip Resistor, 2-Leads, Body 3,20x1,60mm, IPC Low Density)
footprint Р1-12-0,33 (Chip Resistor, 2-Leads, Body 3,20x2,45mm, IPC Low Density)
footprint Р1-12-0,062 (Chip Resistor, 2-Leads, Body 1,00x0,50mm, IPC Low Density)
footprint Р1-12-0,75 (Chip Resistor, 2-Leads, Body 5,00x3,20mm, IPC Low Density)
footprint Р1-12-0,125 (Chip Resistor, 2-Leads, Body 2,00x1,25mm, IPC Low Density)
footprint Р1-12-1,0 (Chip Resistor, 2-Leads, Body 6,30x3,20mm, IPC Low Density)
footprint Р1-12-2,0 (Chip Resistor, 2-Leads, Body 10,00x5,00mm, IPC Low Density)
pins: 1, 2

## Р1-16 АЛЯР.434110.002 ТУ
designator R?  (value not drawn)
Group: Резисторы; Power: -0,125; Precision: ±0,1%; Noise: -0,5; TKS: -Д; Value: 1кОм; Type: Р1-16; TU: АЛЯР.434110.002 ТУ; Price: 1
footprint Р1-12-0,25 (Chip Resistor, 2-Leads, Body 3,20x1,60mm, IPC Low Density)
footprint Р1-12-0,062 (Chip Resistor, 2-Leads, Body 1,00x0,50mm, IPC Low Density)
footprint Р1-12-0,125 (Chip Resistor, 2-Leads, Body 2,00x1,25mm, IPC Low Density)
pins: 1, 2

## РК386ММ
designator BQ?  (value not drawn)
Group: Group; Type: Type; TU: TU
footprint РК386ММ
pins: 1 0, 2 0

## РК457
designator BQ?  (value not drawn)
Part Number: РК457-5ДC-16 000 К ТУ6321-011-07604008-07; Group: Group; Type: Type; TU: TU
pins: 1 0, 1 0, 1 0, 2 0
text: 4; 3

## РЭС80
designator K?  (value not drawn)
Group: Group; Type: Type; TU: TU
footprint РЭС80_РЭС80(Primary)
pins: 11, 12, 13, 21, 22, 23, A, B

## С2-33-0,25
designator R?  (value not drawn)
Group: Резисторы; Type: Type; TU: TU; Power: Power; Precision: Precision
pins: 1, 2

## С2-33Н-0,5
designator R?  (value not drawn)
Group: Резисторы; Type: Type; TU: TU; Power: Power; Precision: Precision
pins: 1, 2

## СМПВ15
designator G?  (value not drawn)
Group: Модули питания; Type: Type; TU: TU
footprint СМПВ15
pins: 1, 2, 3, 4, 5, 6
text: ВХОД+; DC/DC; ВЫХОД+; ВХОД-; ВЫХОД-; ВЫКЛ.; РЕГ.

## СП3-19
designator RR?  (value not drawn)
Group: Резисторы переменные; Precision: Precicion; Type: Type; TU: TU; Power: Power; Value: Value
footprint SP3-19A
pins: 1, 2, 3

## СП5-2ВБ
designator RR?  (value not drawn)
Group: Резисторы переменные; Precision: Precicion; Type: Type; TU: TU; Power: Power; Value: Value
footprint СП5-2ВБ
pins: 1, 2, 3

## ТДМ-А
designator BP?
Тензомодуль; Part Number: ТДМ-2.5А ГАВЛ.408854.108ТТ; Manufacturer: МИИЭТ; Group: Микросхемы; Price: 1000; FullName: ТДМ-А; Type: ТДМ-А
pins: 1 +Uпит, 2 Uвых, 3 -Uпит, 4 -Uпит, 5 Uвых, 6 Uм, 7 NC

## ТС-500-П-01-А-2
designator RK?  (value not drawn)
Part Number: ТС-500-П-01-А-2 ТЛМВ.405211.142ТУ; TypeComp: Терморезисторы; Value: Value; NameComp: ТС-500-П-01-А-2
pins: 1, 2
text: t⁰

## ТС-500-П-01-А-3
designator RK?  (value not drawn)
Part Number: ТС-500-П-01-А-3 ТЛМВ.405211.142ТУ; TypeComp: Терморезисторы; Value: Value; NameComp: ТС-500-П-01-А-3
pins: 1, 2
text: t⁰

## ТЭНП 3.20.50.24
designator EK?  (value not drawn)
Нагреватели; TypeComp: Нагреватель патронный; Part Number: ТЭНП 3.20.50.24; NameComp: ТЭНП 3.20.50.24
pins: 1, 2

## Устройство
designator A?  (value not drawn)
Part Number: *; NameComp: *

## Фотодиод
designator BL?  (value not drawn)
Part Number: *; NameComp: *
pins: 1, 2

## Шаговый двигатель
designator M?, comment ВЕНТ  (value not drawn)
Group: Group; Type: Type; TU: TU
pins: ?1, ?2, ?3, ?4